# Altium schematic symbol library basic04_EMI.schlib: 7 symbols
Pins are listed as number, name and electrical type; pins without a type are passive.

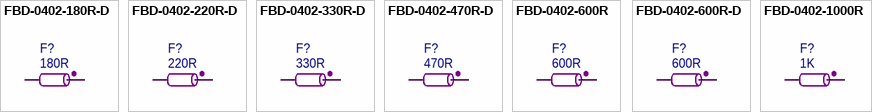
[diagram p0: symbols FBD-0402-180R-D to FBD-0402-1000R]

## FBD-0402-180R-D
designator F?, comment 180R
Ferrite Bead, 180Ohm@100MHz, 25%, 1500mA, 0402, PbF; VendorPartNumber: BLM15PX181SN1; LocalPartNumber: FBD-0402-180R-D; Vendor: Murata; EngineerName: Shyu Lee (Xu Li); EngineerEmail: shyu.lee@gmail.com; shyu.lee@ettus.com; Value: 180R; Publisher: MiniLab; Version: 1.0; VersionDate: 01-10-2014
footprint 0402-FBD
pins: 1, 2

## FBD-0402-220R-D
designator F?, comment 220R
Ferrite Bead, 220Ohm@100MHz, 25%, 1400mA, 0402, PbF; VendorPartNumber: BLM15PX221SN1; LocalPartNumber: FBD-0402-220R-D; Vendor: Murata; EngineerName: Shyu Lee (Xu Li); EngineerEmail: shyu.lee@gmail.com; shyu.lee@ettus.com; Value: 220R; Publisher: MiniLab; Version: 1.0; VersionDate: 01-10-2014
footprint 0402-FBD
pins: 1, 2

## FBD-0402-330R-D
designator F?, comment 330R
Ferrite Bead, 330Ohm@100MHz, 25%, 1200mA, 0402, PbF; VendorPartNumber: BLM15PX331SN1; LocalPartNumber: FBD-0402-330R-D; Vendor: Murata; EngineerName: Shyu Lee (Xu Li); EngineerEmail: shyu.lee@gmail.com; shyu.lee@ettus.com; Value: 330R; Publisher: MiniLab; Version: 1.0; VersionDate: 01-10-2014
footprint 0402-FBD
pins: 1, 2

## FBD-0402-470R-D
designator F?, comment 470R
Ferrite Bead, 470Ohm@100MHz, 25%, 1000mA, 0402, PbF; VendorPartNumber: BLM15PX471SN1; LocalPartNumber: FBD-0402-470R-D; Vendor: Murata; EngineerName: Shyu Lee (Xu Li); EngineerEmail: shyu.lee@gmail.com; shyu.lee@ettus.com; Value: 470R; Publisher: MiniLab; Version: 1.0; VersionDate: 01-10-2014
footprint 0402-FBD
pins: 1, 2

## FBD-0402-600R
designator F?, comment 600R
Ferrite Bead, 600Ohm@100MHz, 25%, 500mA, 0402, PbF; VendorPartNumber: BLM15AX601SN1; LocalPartNumber: FBD-0402-600R; Vendor: Murata; EngineerName: Shyu Lee (Xu Li); EngineerEmail: shyu.lee@gmail.com; shyu.lee@ettus.com; Value: 600R; Publisher: MiniLab; Version: 1.0; VersionDate: 01-10-2014
footprint 0402-FBD
pins: 1, 2

## FBD-0402-600R-D
designator F?, comment 600R
Ferrite Bead, 600Ohm@100MHz, 25%, 900mA, 0402, PbF; VendorPartNumber: BLM15PX601SN1; LocalPartNumber: FBD-0402-600R-D; Vendor: Murata; EngineerName: Shyu Lee (Xu Li); EngineerEmail: shyu.lee@gmail.com; shyu.lee@ettus.com; Value: 600R; Publisher: MiniLab; Version: 1.0; VersionDate: 01-10-2014
footprint 0402-FBD
pins: 1, 2

## FBD-0402-1000R
designator F?, comment 1K
Ferrite Bead, 1000Ohm@100MHz, 25%, 350mA, 0402, PbF; VendorPartNumber: BLM15AX102SN1; LocalPartNumber: FBD-0402-1000R; Vendor: Murata; EngineerName: Shyu Lee (Xu Li); EngineerEmail: shyu.lee@gmail.com; shyu.lee@ettus.com; Value: 1K; Publisher: MiniLab; Version: 1.0; VersionDate: 01-10-2014
footprint 0402-FBD
pins: 1, 2